# Altium footprint library Разъемы-mm.PcbLib: 96 footprints (part 3 of 6)
Each footprint in its own frame and in the unit in brackets; x right, y up, seen from the top. Pads: shape width x height; smd on the part's side, far side on the other; paste and mask are expansions set on the pad; w line width, h text height; cw(c..) or ccw(c..) is an arc to the next point about the centre after c.
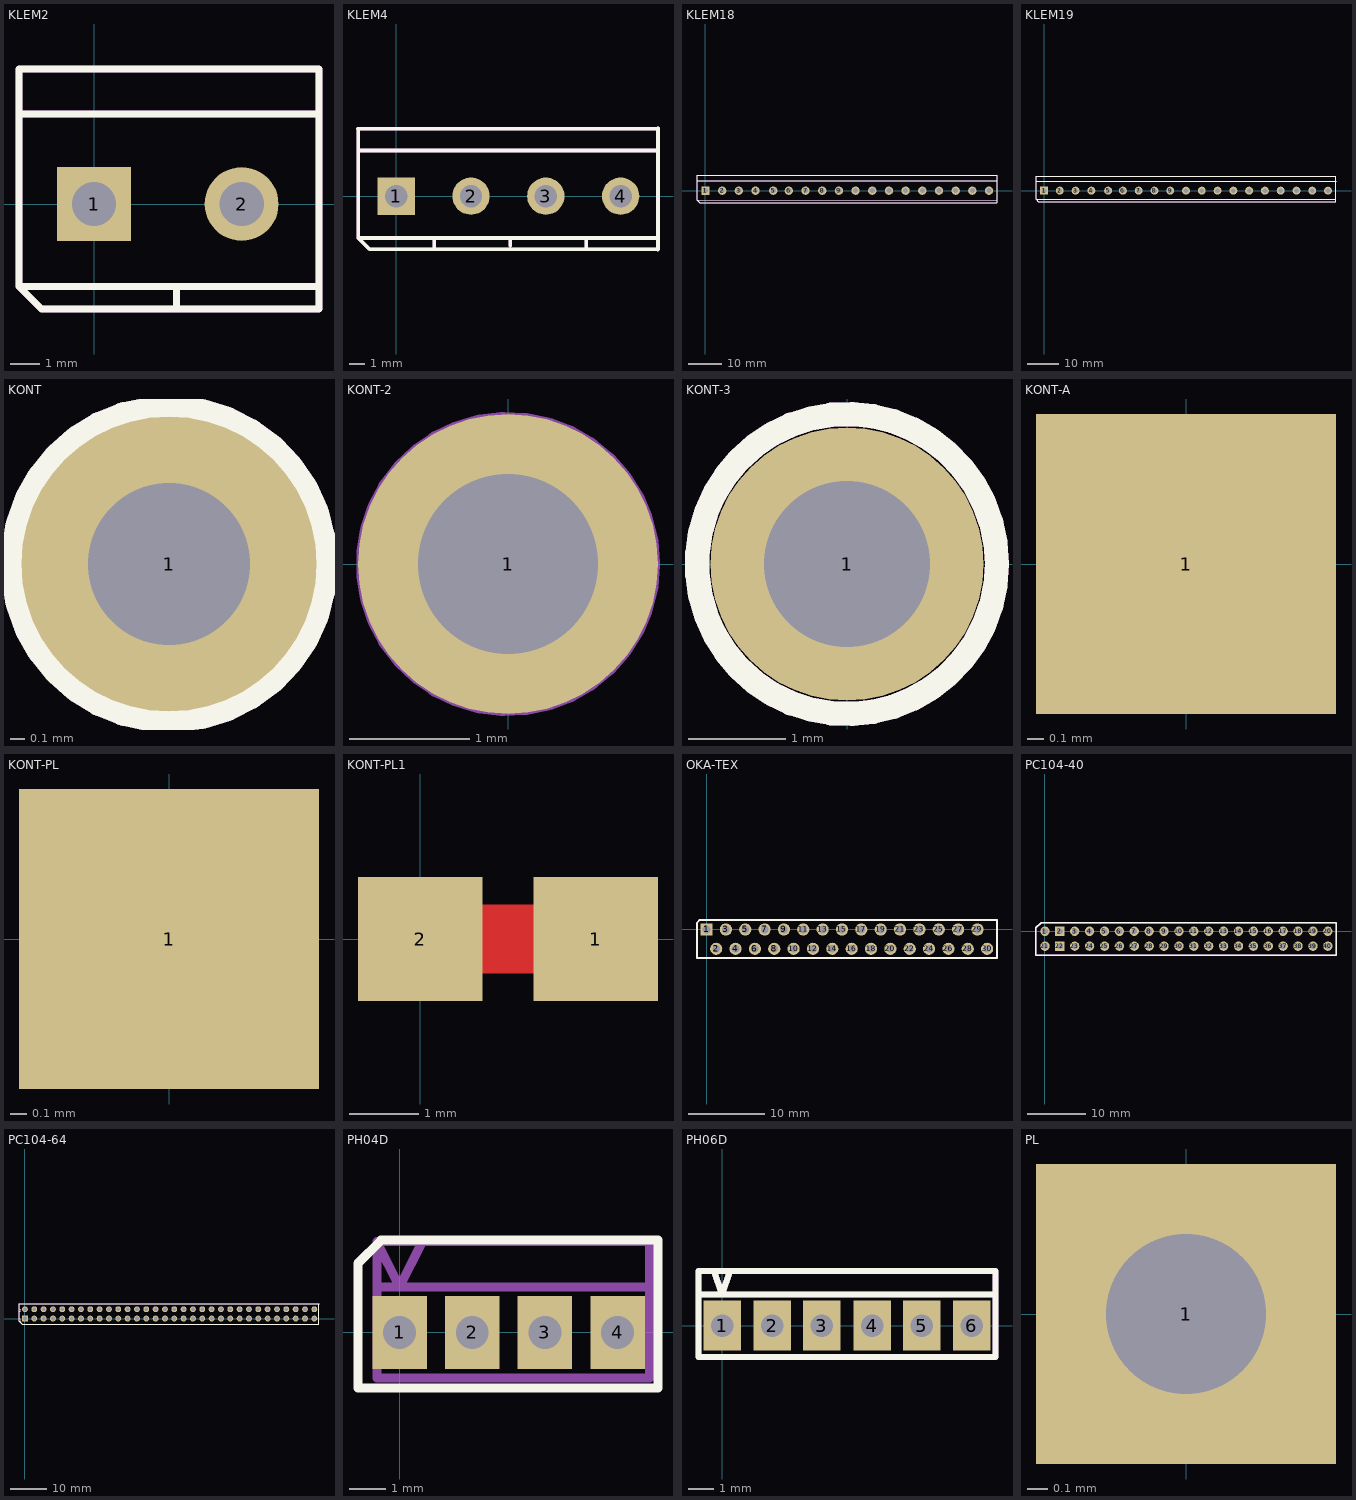
[diagram p2: the footprints below, top view; thin cyan lines are the x and y axes]

## KLEM2 [mm]
pads (2):
  rect 2.5x2.5 hole 1.5: 1(0,0)
  round 2.5 hole 1.5: 2(5,0)
Top Overlay:
  lines w0.25: -2.54,3.048 7.62,3.048 ; 2.794,-3.556 2.794,-2.794 ; 7.62,-2.794 -2.54,-2.794 ; -2.54,-2.794 -2.54,4.572 7.62,4.572 7.62,-3.556 -1.778,-3.556 -2.54,-2.794
Mechanical 1:
  lines w0.25: -2.54,3.048 7.62,3.048 ; 2.794,-3.556 2.794,-2.794 ; 7.62,-2.794 -2.54,-2.794 ; -2.54,-2.794 -2.54,4.572 7.62,4.572 7.62,-3.556 -1.778,-3.556 -2.54,-2.794

## KLEM4 [mm]
pads (4):
  rect 2.5x2.5 hole 1.5: 1(0,0)
  round 2.5 hole 1.5: 2(5,0) 3(10,0) 4(15,0)
Top Overlay:
  lines w0.25: -2.555,4.512 17.485,4.52 ; -2.54,3.048 17.485,3.05 ; -2.54,4.505 -2.54,-2.794 ; 2.54,-3.556 2.54,-2.794 ; 7.62,-3.302 7.62,-2.794 ; 12.7,-3.556 12.7,-2.794 ; 17.485,-3.565 -1.778,-3.556 -2.54,-2.794 ; 17.5,-3.55 17.5,4.52 ; 17.5,-2.8 -2.54,-2.794
Mechanical 1:
  lines w0.25: -2.555,4.512 17.485,4.52 ; -2.54,3.048 17.485,3.05 ; -2.54,4.505 -2.54,-2.794 ; 2.54,-3.556 2.54,-2.794 ; 7.62,-3.302 7.62,-2.794 ; 12.7,-3.556 12.7,-2.794 ; 17.485,-3.565 -1.778,-3.556 -2.54,-2.794 ; 17.5,-3.55 17.5,4.52 ; 17.5,-2.8 -2.54,-2.794

## KLEM18 [mm]
pads (18):
  rect 2.5x2.5 hole 1.5: 1(0,0)
  round 2.5 hole 1.5: 2(5,0) 3(10,0) 4(15,0) 5(20.32,0) 6(25,0) 7(30,0) 8(35,0) 9(40,0) 10(45,0) 11(50,0) 12(55,0) 13(60,0) 14(65,0) 15(70,0) 16(75,0) 17(80,0) 18(85,0)
Top Overlay:
  lines w0.25: -2.54,3.048 87.39,3.05 ; 87.39,-3.56 -1.778,-3.556 -2.54,-2.794 ; 87.39,-2.79 -2.54,-2.794 ; 87.39,4.57 -2.54,4.572 -2.54,-2.794 ; 87.4,-3.556 87.4,4.572
Mechanical 1:
  lines w0.25: -2.54,3.048 87.39,3.05 ; 87.39,-3.56 -1.778,-3.556 -2.54,-2.794 ; 87.39,-2.79 -2.54,-2.794 ; 87.39,4.57 -2.54,4.572 -2.54,-2.794 ; 87.4,-3.556 87.4,4.572

## KLEM19 [mm]
pads (19):
  rect 2.5x2.5 hole 1.5: 1(0,0)
  round 2.5 hole 1.5: 2(5,0) 3(10,0) 4(15,0) 5(20.32,0) 6(25,0) 7(30,0) 8(35,0) 9(40,0) 10(45,0) 11(50,0) 12(55,0) 13(60,0) 14(65,0) 15(70,0) 16(75,0) 17(80,0) 18(85,0) 19(90,0)
Top Overlay:
  lines w0.25: -2.54,3.048 92.53,3.05 ; 92.51,4.61 -2.54,4.572 -2.54,-2.794 ; 92.52,-3.56 -1.778,-3.556 -2.54,-2.794 ; 92.52,-2.79 -2.54,-2.794 ; 92.525,-3.556 92.525,4.572
Mechanical 1:
  lines w0.25: -2.54,3.048 92.53,3.05 ; 92.51,4.61 -2.54,4.572 -2.54,-2.794 ; 92.52,-3.56 -1.778,-3.556 -2.54,-2.794 ; 92.52,-2.79 -2.54,-2.794 ; 92.525,-3.556 92.525,4.572

## KONT [mm]
pads (1):
  round 2 hole 1.1: 1(0,0)
Top Overlay:
  circle w0.25: c0,0 r1.016
Mechanical 1:
  circle w0.25: c0,0 r1.016

## KONT-2 [mm]
pads (1):
  round 2.5 hole 1.5: 1(0,0)
Mechanical 1:
  circle w0.25: c0,0 r1.143

## KONT-3 [mm]
pads (1):
  round 2.8 hole 1.7: 1(0,0)
Top Overlay:
  circle w0.25: c0,0 r1.538
Mechanical 1:
  circle w0.25: c0,0 r1.538

## KONT-A [mm]
pads (1):
  rect 1.8x1.8 smd: 1(0,0)

## KONT-PL [mm]
pads (1):
  rect 1.8x1.8 smd: 1(0,0)

## KONT-PL1 [mm]
pads (2):
  rect 1.8x1.8 smd: 1(2.54,0) 2(0,0)
Top Layer:
  lines w1: 0,0 2.54,0

## OKA-TEX [mm]
pads (30):
  rect 1.6x1.6 hole 1: 1(0,0)
  round 1.6 hole 1: 2(1.27,-2.54) 3(2.54,0) 4(3.81,-2.54) 5(5.08,0) 6(6.35,-2.54) 7(7.62,0) 8(8.89,-2.54) 9(10.16,0) 10(11.43,-2.54) 11(12.7,0) 12(13.97,-2.54) 13(15.24,0) 14(16.51,-2.54) 15(17.78,0) 16(19.05,-2.54) 17(20.32,0) 18(21.59,-2.54) 19(22.86,0) 20(24.13,-2.54) 21(25.4,0) 22(26.67,-2.54) 23(27.94,0) 24(29.21,-2.54) 25(30.48,0) 26(31.75,-2.54) 27(33.02,0) 28(34.29,-2.54) 29(35.56,0) 30(36.83,-2.54)
Top Overlay:
  lines w0.25: -1.25,-3.75 38.125,-3.75 38.125,1.25 -0.875,1.25 -1.25,0.875 -1.25,-3.75
Mechanical 1:
  lines w0.25: -1.25,-3.75 38.125,-3.75 38.125,1.25 -0.875,1.25 -1.25,0.875 -1.25,-3.75

## PC104-40 [mm]
pads (40):
  round 1.6 hole 1: 1(0,0) 3(5.08,0) 4(7.62,0) 5(10.16,0) 6(12.7,0) 7(15.24,0) 8(17.78,0) 9(20.32,0) 10(22.86,0) 11(25.4,0) 12(27.94,0) 13(30.48,0) 14(33.02,0) 15(35.56,0) 16(38.1,0) 17(40.64,0) 18(43.18,0) 19(45.72,0) 20(48.26,0) 21(0,-2.54) 23(5.08,-2.54) 24(7.62,-2.54) 25(10.16,-2.54) 26(12.7,-2.54) 27(15.24,-2.54) 28(17.78,-2.54) 29(20.32,-2.54) 30(22.86,-2.54) 31(25.4,-2.54) 32(27.94,-2.54) 33(30.48,-2.54) 34(33.02,-2.54) 35(35.56,-2.54) 36(38.1,-2.54) 37(40.64,-2.54) 38(43.18,-2.54) 39(45.72,-2.54) 40(48.26,-2.54)
  rect 1.6x1.6 hole 1: 2(2.54,0) 22(2.54,-2.54)
Top Overlay:
  lines w0.25: -1.524,-4.115 49.657,-4.115 49.657,1.473 -0.635,1.473 -1.524,0.584 -1.524,-4.115
Mechanical 1:
  lines w0.25: -1.524,-4.115 49.657,-4.115 49.657,1.473 -0.635,1.473 -1.524,0.584 -1.524,-4.115

## PC104-64 [mm]
pads (64):
  rect 1.6x1.6 hole 1: 1(0,0)
  round 1.6 hole 1: 2(0,2.54) 3(2.54,0) 4(2.54,2.54) 5(5.08,0) 6(5.08,2.54) 7(7.62,0) 8(7.62,2.54) 9(10.16,0) 10(10.16,2.54) 11(12.7,0) 12(12.7,2.54) 13(15.24,0) 14(15.24,2.54) 15(17.78,0) 16(17.78,2.54) 17(20.32,0) 18(20.32,2.54) 19(22.86,0) 20(22.86,2.54) 21(25.4,0) 22(25.4,2.54) 23(27.94,0) 24(27.94,2.54) 25(30.48,0) 26(30.48,2.54) 27(33.02,0) 28(33.02,2.54) 29(35.56,0) 30(35.56,2.54) 31(38.1,0) 32(38.1,2.54) 33(40.64,0) 34(40.64,2.54) 35(43.18,0) 36(43.18,2.54) 37(45.72,0) 38(45.72,2.54) 39(48.26,0) 40(48.26,2.54) 41(50.8,0) 42(50.8,2.54) 43(53.34,0) 44(53.34,2.54) 45(55.88,0) 46(55.88,2.54) 47(58.42,0) 48(58.42,2.54) 49(60.96,0) 50(60.96,2.54) 51(63.5,0) 52(63.5,2.54) 53(66.04,0) 54(66.04,2.54) 55(68.58,0) 56(68.58,2.54) 57(71.12,0) 58(71.12,2.54) 59(73.66,0) 60(73.66,2.54) 61(76.2,0) 62(76.2,2.54) 63(78.74,0) 64(78.74,2.54)
Top Overlay:
  lines w0.25: 79.959,-1.575 -0.711,-1.524 -1.524,-0.711 -1.524,4.064 80.01,4.064 ; 79.985,-1.524 79.985,4.064
  text "2" at -1.612,1.694 h0.79
  text "1" at -1.612,-0.846 h0.79
Mechanical 1:
  lines w0.25: 79.959,-1.575 -0.711,-1.524 -1.524,-0.711 -1.524,4.064 80.01,4.064 ; 79.985,-1.524 79.985,4.064

## PH04D [mm]
pads (4):
  rect 1.5x2 hole 0.9: 1(0,0) 2(2,0) 3(4,0) 4(6,0)
Top Overlay:
  lines w0.25: -1.143,-1.524 7.112,-1.524 7.112,2.54 -0.508,2.54 -1.143,1.905 -1.143,-1.524
Mechanical 1:
  lines w0.25: -0.625,1.25 6.875,1.25 ; 0.625,2.5 0,1.25 -0.625,2.5 ; -0.625,2.5 6.875,2.5 6.875,-1.25 -0.625,-1.25 -0.625,2.5

## PH06D [mm]
pads (6):
  rect 1.5x2 hole 0.9: 1(0,0) 2(2,0) 3(4,0) 4(6,0) 5(8,0) 6(10,0)
Top Overlay:
  lines w0.25: -0.937,1.25 10.937,1.25 ; -0.312,2.187 0,1.25 0.312,2.187 ; -0.937,-1.25 10.937,-1.25 10.937,2.187 -0.937,2.187 -0.937,-1.25
Mechanical 1:
  lines w0.25: -0.937,1.25 10.937,1.25 ; -0.312,2.187 0,1.25 0.312,2.187 ; -0.937,-1.25 10.937,-1.25 10.937,2.187 -0.937,2.187 -0.937,-1.25

## PL [mm]
pads (1):
  rect 1.5x1.5 hole 0.8: 1(0,0)